# Altium schematic symbol library LTC6253IMS.SchLib: 1 symbol
Pins are listed as number, name and electrical type; pins without a type are passive.

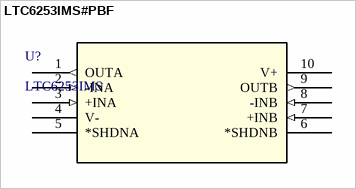
[diagram p0: symbol LTC6253IMS#PBF]

## LTC6253IMS#PBF
designator U?, comment LTC6253IMS
High Speed Operational Amplifiers 800MHz, 3.5mA Power Efficient Rail-to-Rail I/O Op Amp; Manufacturer_Part_Number: LTC6253IMS#PBF; Vendor: Linear Technology; RefDes: RefDes; Type: DEV; Value: Value; ComponentLink1Description: Mouser; ComponentLink1URL: https://www.mouser.com/ProductDetail/Analog-Devices/LTC6253IMSPBF?qs=hVkxg5c3xu8vLKBxRxxmWw%3D%3D
footprint MSOP-10_MS
pins: 1 OUTA (out), 2 -INA (in), 3 +INA (in), 4 V- (power), 5 *SHDNA, 6 *SHDNB, 7 +INB (in), 8 -INB (in), 9 OUTB (out), 10 V+ (power)